# Altium footprint library Package_DIP.PcbLib: 281 footprints (part 18 of 18)
Each footprint in its own frame and in the unit in brackets; x right, y up, seen from the top. Pads: shape width x height; smd on the part's side, far side on the other; paste and mask are expansions set on the pad; w line width, h text height; cw(c..) or ccw(c..) is an arc to the next point about the centre after c.
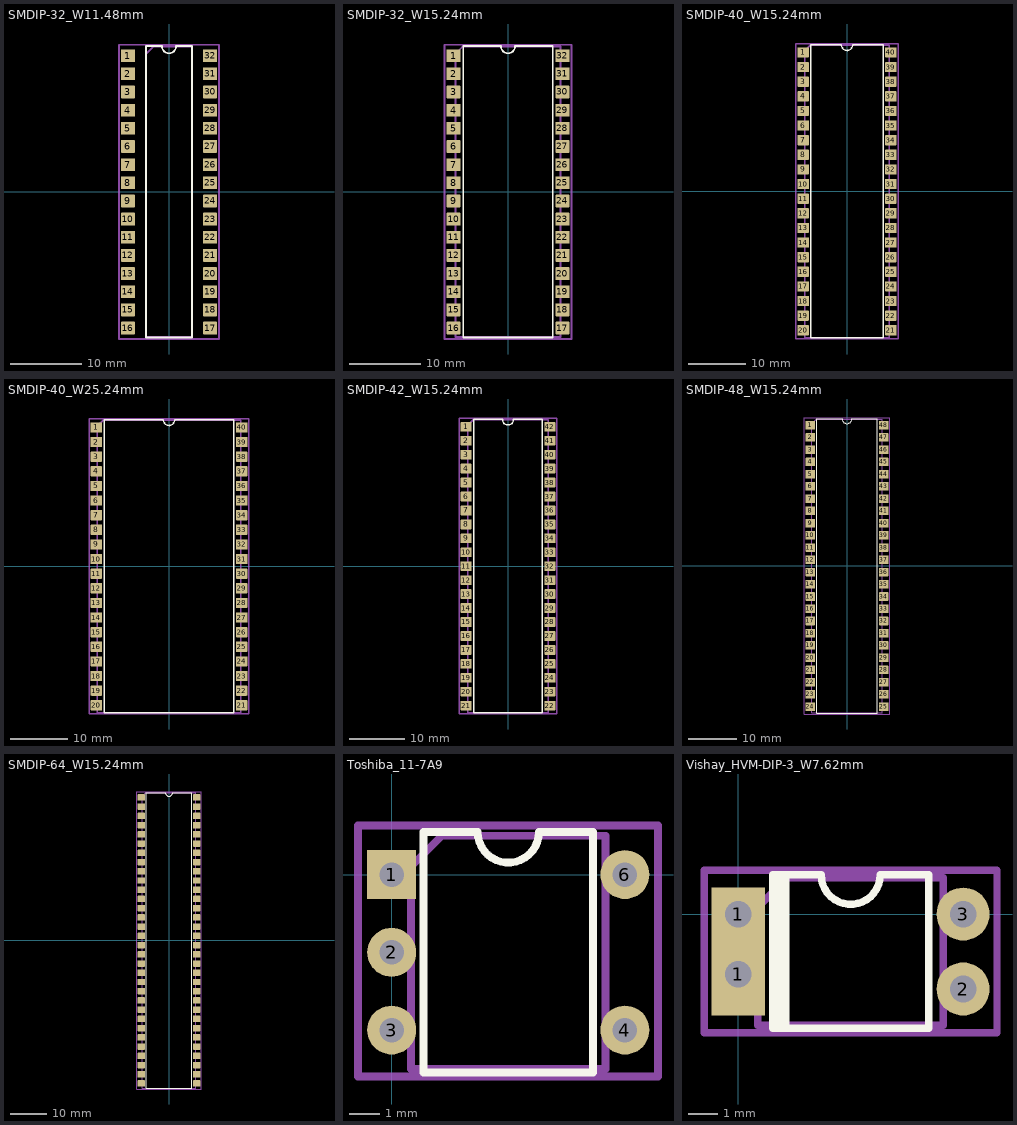
[diagram p17: the footprints below, top view; thin cyan lines are the x and y axes]

## SMDIP-32_W11.48mm [mm]
pads (32):
  rrect14% 2x1.78 smd: 1(-5.74,19.05) 2(-5.74,16.51) 3(-5.74,13.97) 4(-5.74,11.43) 5(-5.74,8.89) 6(-5.74,6.35) 7(-5.74,3.81) 8(-5.74,1.27) 9(-5.74,-1.27) 10(-5.74,-3.81) 11(-5.74,-6.35) 12(-5.74,-8.89) 13(-5.74,-11.43) 14(-5.74,-13.97) 15(-5.74,-16.51) 16(-5.74,-19.05) 17(5.74,-19.05) 18(5.74,-16.51) 19(5.74,-13.97) 20(5.74,-11.43) 21(5.74,-8.89) 22(5.74,-6.35) 23(5.74,-3.81) 24(5.74,-1.27) 25(5.74,1.27) 26(5.74,3.81) 27(5.74,6.35) 28(5.74,8.89) 29(5.74,11.43) 30(5.74,13.97) 31(5.74,16.51) 32(5.74,19.05)
F.SilkS:
  lines w0.254: -3.235,-20.38 3.235,-20.38 3.235,20.38 1,20.38 cw(c0,20.38) -1,20.38 -3.235,20.38 -3.235,-20.38
Top Assembly:
  lines w0.254: -3.175,-20.32 3.175,-20.32 3.175,20.32 -2.175,20.32 -3.175,19.32 -3.175,-20.32
  text "'.Designator'" at 0.84,-4.047 h1
Top Courtyard:
  lines w0.254: -6.99,-20.58 6.99,-20.58 6.99,20.58 -6.99,20.58 -6.99,-20.58
Top Designator:
  text ".Designator" at -7.618,-0.508 h1.52

## SMDIP-32_W15.24mm [mm]
pads (32):
  rrect14% 2x1.78 smd: 1(-7.62,19.05) 2(-7.62,16.51) 3(-7.62,13.97) 4(-7.62,11.43) 5(-7.62,8.89) 6(-7.62,6.35) 7(-7.62,3.81) 8(-7.62,1.27) 9(-7.62,-1.27) 10(-7.62,-3.81) 11(-7.62,-6.35) 12(-7.62,-8.89) 13(-7.62,-11.43) 14(-7.62,-13.97) 15(-7.62,-16.51) 16(-7.62,-19.05) 17(7.62,-19.05) 18(7.62,-16.51) 19(7.62,-13.97) 20(7.62,-11.43) 21(7.62,-8.89) 22(7.62,-6.35) 23(7.62,-3.81) 24(7.62,-1.27) 25(7.62,1.27) 26(7.62,3.81) 27(7.62,6.35) 28(7.62,8.89) 29(7.62,11.43) 30(7.62,13.97) 31(7.62,16.51) 32(7.62,19.05)
F.SilkS:
  lines w0.254: -6.26,-20.38 6.26,-20.38 6.26,20.38 1,20.38 cw(c0,20.38) -1,20.38 -6.26,20.38 -6.26,-20.38
Top Assembly:
  lines w0.254: -7.365,-20.32 7.365,-20.32 7.365,20.32 -6.365,20.32 -7.365,19.32 -7.365,-20.32
  text "'.Designator'" at 0.84,-4.047 h1
Top Courtyard:
  lines w0.254: -8.88,-20.58 8.88,-20.58 8.88,20.58 -8.88,20.58 -8.88,-20.58
Top Designator:
  text ".Designator" at -7.618,-0.508 h1.52

## SMDIP-40_W15.24mm [mm]
pads (40):
  rrect14% 2x1.78 smd: 1(-7.62,24.13) 2(-7.62,21.59) 3(-7.62,19.05) 4(-7.62,16.51) 5(-7.62,13.97) 6(-7.62,11.43) 7(-7.62,8.89) 8(-7.62,6.35) 9(-7.62,3.81) 10(-7.62,1.27) 11(-7.62,-1.27) 12(-7.62,-3.81) 13(-7.62,-6.35) 14(-7.62,-8.89) 15(-7.62,-11.43) 16(-7.62,-13.97) 17(-7.62,-16.51) 18(-7.62,-19.05) 19(-7.62,-21.59) 20(-7.62,-24.13) 21(7.62,-24.13) 22(7.62,-21.59) 23(7.62,-19.05) 24(7.62,-16.51) 25(7.62,-13.97) 26(7.62,-11.43) 27(7.62,-8.89) 28(7.62,-6.35) 29(7.62,-3.81) 30(7.62,-1.27) 31(7.62,1.27) 32(7.62,3.81) 33(7.62,6.35) 34(7.62,8.89) 35(7.62,11.43) 36(7.62,13.97) 37(7.62,16.51) 38(7.62,19.05) 39(7.62,21.59) 40(7.62,24.13)
F.SilkS:
  lines w0.254: -6.26,-25.46 6.26,-25.46 6.26,25.46 1,25.46 cw(c0,25.46) -1,25.46 -6.26,25.46 -6.26,-25.46
Top Assembly:
  lines w0.254: -7.365,-25.4 7.365,-25.4 7.365,25.4 -6.365,25.4 -7.365,24.4 -7.365,-25.4
  text "'.Designator'" at 0.84,-4.047 h1
Top Courtyard:
  lines w0.254: -8.88,-25.65 8.88,-25.65 8.88,25.65 -8.88,25.65 -8.88,-25.65
Top Designator:
  text ".Designator" at -7.618,-0.508 h1.52

## SMDIP-40_W25.24mm [mm]
pads (40):
  rrect14% 2x1.78 smd: 1(-12.62,24.13) 2(-12.62,21.59) 3(-12.62,19.05) 4(-12.62,16.51) 5(-12.62,13.97) 6(-12.62,11.43) 7(-12.62,8.89) 8(-12.62,6.35) 9(-12.62,3.81) 10(-12.62,1.27) 11(-12.62,-1.27) 12(-12.62,-3.81) 13(-12.62,-6.35) 14(-12.62,-8.89) 15(-12.62,-11.43) 16(-12.62,-13.97) 17(-12.62,-16.51) 18(-12.62,-19.05) 19(-12.62,-21.59) 20(-12.62,-24.13) 21(12.62,-24.13) 22(12.62,-21.59) 23(12.62,-19.05) 24(12.62,-16.51) 25(12.62,-13.97) 26(12.62,-11.43) 27(12.62,-8.89) 28(12.62,-6.35) 29(12.62,-3.81) 30(12.62,-1.27) 31(12.62,1.27) 32(12.62,3.81) 33(12.62,6.35) 34(12.62,8.89) 35(12.62,11.43) 36(12.62,13.97) 37(12.62,16.51) 38(12.62,19.05) 39(12.62,21.59) 40(12.62,24.13)
F.SilkS:
  lines w0.254: -11.26,-25.46 11.26,-25.46 11.26,25.46 1,25.46 cw(c0,25.46) -1,25.46 -11.26,25.46 -11.26,-25.46
Top Assembly:
  lines w0.254: -12.445,-25.4 12.445,-25.4 12.445,25.4 -11.445,25.4 -12.445,24.4 -12.445,-25.4
  text "'.Designator'" at 0.84,-4.047 h1
Top Courtyard:
  lines w0.254: -13.87,-25.65 13.87,-25.65 13.87,25.65 -13.87,25.65 -13.87,-25.65
Top Designator:
  text ".Designator" at -7.618,-0.508 h1.52

## SMDIP-42_W15.24mm [mm]
pads (42):
  rrect14% 2x1.78 smd: 1(-7.62,25.4) 2(-7.62,22.86) 3(-7.62,20.32) 4(-7.62,17.78) 5(-7.62,15.24) 6(-7.62,12.7) 7(-7.62,10.16) 8(-7.62,7.62) 9(-7.62,5.08) 10(-7.62,2.54) 11(-7.62,0) 12(-7.62,-2.54) 13(-7.62,-5.08) 14(-7.62,-7.62) 15(-7.62,-10.16) 16(-7.62,-12.7) 17(-7.62,-15.24) 18(-7.62,-17.78) 19(-7.62,-20.32) 20(-7.62,-22.86) 21(-7.62,-25.4) 22(7.62,-25.4) 23(7.62,-22.86) 24(7.62,-20.32) 25(7.62,-17.78) 26(7.62,-15.24) 27(7.62,-12.7) 28(7.62,-10.16) 29(7.62,-7.62) 30(7.62,-5.08) 31(7.62,-2.54) 32(7.62,0) 33(7.62,2.54) 34(7.62,5.08) 35(7.62,7.62) 36(7.62,10.16) 37(7.62,12.7) 38(7.62,15.24) 39(7.62,17.78) 40(7.62,20.32) 41(7.62,22.86) 42(7.62,25.4)
F.SilkS:
  lines w0.254: -6.26,-26.73 6.26,-26.73 6.26,26.73 1,26.73 cw(c0,26.73) -1,26.73 -6.26,26.73 -6.26,-26.73
Top Assembly:
  lines w0.254: -7.365,-26.67 7.365,-26.67 7.365,26.67 -6.365,26.67 -7.365,25.67 -7.365,-26.67
  text "'.Designator'" at 0.84,-4.047 h1
Top Courtyard:
  lines w0.254: -8.88,-26.92 8.88,-26.92 8.88,26.92 -8.88,26.92 -8.88,-26.92
Top Designator:
  text ".Designator" at -7.618,-0.508 h1.52

## SMDIP-48_W15.24mm [mm]
pads (48):
  rrect14% 2x1.78 smd: 1(-7.62,29.21) 2(-7.62,26.67) 3(-7.62,24.13) 4(-7.62,21.59) 5(-7.62,19.05) 6(-7.62,16.51) 7(-7.62,13.97) 8(-7.62,11.43) 9(-7.62,8.89) 10(-7.62,6.35) 11(-7.62,3.81) 12(-7.62,1.27) 13(-7.62,-1.27) 14(-7.62,-3.81) 15(-7.62,-6.35) 16(-7.62,-8.89) 17(-7.62,-11.43) 18(-7.62,-13.97) 19(-7.62,-16.51) 20(-7.62,-19.05) 21(-7.62,-21.59) 22(-7.62,-24.13) 23(-7.62,-26.67) 24(-7.62,-29.21) 25(7.62,-29.21) 26(7.62,-26.67) 27(7.62,-24.13) 28(7.62,-21.59) 29(7.62,-19.05) 30(7.62,-16.51) 31(7.62,-13.97) 32(7.62,-11.43) 33(7.62,-8.89) 34(7.62,-6.35) 35(7.62,-3.81) 36(7.62,-1.27) 37(7.62,1.27) 38(7.62,3.81) 39(7.62,6.35) 40(7.62,8.89) 41(7.62,11.43) 42(7.62,13.97) 43(7.62,16.51) 44(7.62,19.05) 45(7.62,21.59) 46(7.62,24.13) 47(7.62,26.67) 48(7.62,29.21)
F.SilkS:
  lines w0.254: -6.26,-30.54 6.26,-30.54 6.26,30.54 1,30.54 cw(c0,30.54) -1,30.54 -6.26,30.54 -6.26,-30.54
Top Assembly:
  lines w0.254: -7.365,-30.48 7.365,-30.48 7.365,30.48 -6.365,30.48 -7.365,29.48 -7.365,-30.48
  text "'.Designator'" at 0.84,-4.047 h1
Top Courtyard:
  lines w0.254: -8.88,-30.74 8.88,-30.74 8.88,30.74 -8.88,30.74 -8.88,-30.74
Top Designator:
  text ".Designator" at -7.618,-0.508 h1.52

## SMDIP-64_W15.24mm [mm]
pads (64):
  rrect14% 2x1.78 smd: 1(-7.62,39.37) 2(-7.62,36.83) 3(-7.62,34.29) 4(-7.62,31.75) 5(-7.62,29.21) 6(-7.62,26.67) 7(-7.62,24.13) 8(-7.62,21.59) 9(-7.62,19.05) 10(-7.62,16.51) 11(-7.62,13.97) 12(-7.62,11.43) 13(-7.62,8.89) 14(-7.62,6.35) 15(-7.62,3.81) 16(-7.62,1.27) 17(-7.62,-1.27) 18(-7.62,-3.81) 19(-7.62,-6.35) 20(-7.62,-8.89) 21(-7.62,-11.43) 22(-7.62,-13.97) 23(-7.62,-16.51) 24(-7.62,-19.05) 25(-7.62,-21.59) 26(-7.62,-24.13) 27(-7.62,-26.67) 28(-7.62,-29.21) 29(-7.62,-31.75) 30(-7.62,-34.29) 31(-7.62,-36.83) 32(-7.62,-39.37) 33(7.62,-39.37) 34(7.62,-36.83) 35(7.62,-34.29) 36(7.62,-31.75) 37(7.62,-29.21) 38(7.62,-26.67) 39(7.62,-24.13) 40(7.62,-21.59) 41(7.62,-19.05) 42(7.62,-16.51) 43(7.62,-13.97) 44(7.62,-11.43) 45(7.62,-8.89) 46(7.62,-6.35) 47(7.62,-3.81) 48(7.62,-1.27) 49(7.62,1.27) 50(7.62,3.81) 51(7.62,6.35) 52(7.62,8.89) 53(7.62,11.43) 54(7.62,13.97) 55(7.62,16.51) 56(7.62,19.05) 57(7.62,21.59) 58(7.62,24.13) 59(7.62,26.67) 60(7.62,29.21) 61(7.62,31.75) 62(7.62,34.29) 63(7.62,36.83) 64(7.62,39.37)
F.SilkS:
  lines w0.254: -6.26,-40.7 6.26,-40.7 6.26,40.7 1,40.7 cw(c0,40.7) -1,40.7 -6.26,40.7 -6.26,-40.7
Top Assembly:
  lines w0.254: -7.365,-40.64 7.365,-40.64 7.365,40.64 -6.365,40.64 -7.365,39.64 -7.365,-40.64
  text "'.Designator'" at 0.84,-4.047 h1
Top Courtyard:
  lines w0.254: -8.88,-40.89 8.88,-40.89 8.88,40.89 -8.88,40.89 -8.88,-40.89
Top Designator:
  text ".Designator" at -7.618,-0.508 h1.52

## Toshiba_11-7A9 [mm]
pads (5):
  rect 1.6x1.6 hole 0.8: 1(0,0)
  rrect100% 1.6x1.6 hole 0.8: 2(0,-2.54) 3(0,-5.08) 4(7.62,-5.08) 6(7.62,0)
F.SilkS:
  lines w0.254: 1.04,-6.47 6.58,-6.47 6.58,1.39 4.81,1.39 cw(c3.81,1.39) 2.81,1.39 1.04,1.39 1.04,-6.47
Top Assembly:
  lines w0.254: 0.635,-6.35 6.985,-6.35 6.985,1.27 1.635,1.27 0.635,0.27 0.635,-6.35
  text "'.Designator'" at -0.237,-3.38 h1
Top Courtyard:
  lines w0.254: -1.1,-6.6 8.7,-6.6 8.7,1.6 -1.1,1.6 -1.1,-6.6
Top Designator:
  text ".Designator" at -3.818,-3.008 h1.52

## Vishay_HVM-DIP-3_W7.62mm [mm]
pads (4):
  rect 1.8x2.8 hole 0.9: 1(0,-2.04)
  rect 1.8x1.8 hole 0.9: 1(0,0)
  rrect100% 1.8x1.8 hole 0.9: 2(7.62,-2.54) 3(7.62,0)
F.SilkS:
  lines w0.254: 1.21,-3.87 1.21,1.33 ; 1.31,-3.87 1.31,1.33 ; 1.4,-3.8 1.4,1.3 ; 1.51,-3.87 1.51,1.33 ; 1.61,-3.87 1.61,1.33 ; 1.16,-3.87 6.46,-3.87 6.46,1.33 4.81,1.33 cw(c3.81,1.33) 2.81,1.33 1.16,1.33 1.16,-3.87
Top Assembly:
  lines w0.254: 0.665,-3.77 6.955,-3.77 6.955,1.23 1.665,1.23 0.665,0.23 0.665,-3.77
  text "'.Designator'" at -0.237,-2.11 h1
Top Courtyard:
  lines w0.254: -1.15,-4.02 8.77,-4.02 8.77,1.48 -1.15,1.48 -1.15,-4.02
Top Designator:
  text ".Designator" at -3.808,-1.778 h1.52